# Altium schematic symbol library Interface_Expansion.SchLib: 68 symbols
Pins are listed as number, name and electrical type; pins without a type are passive.

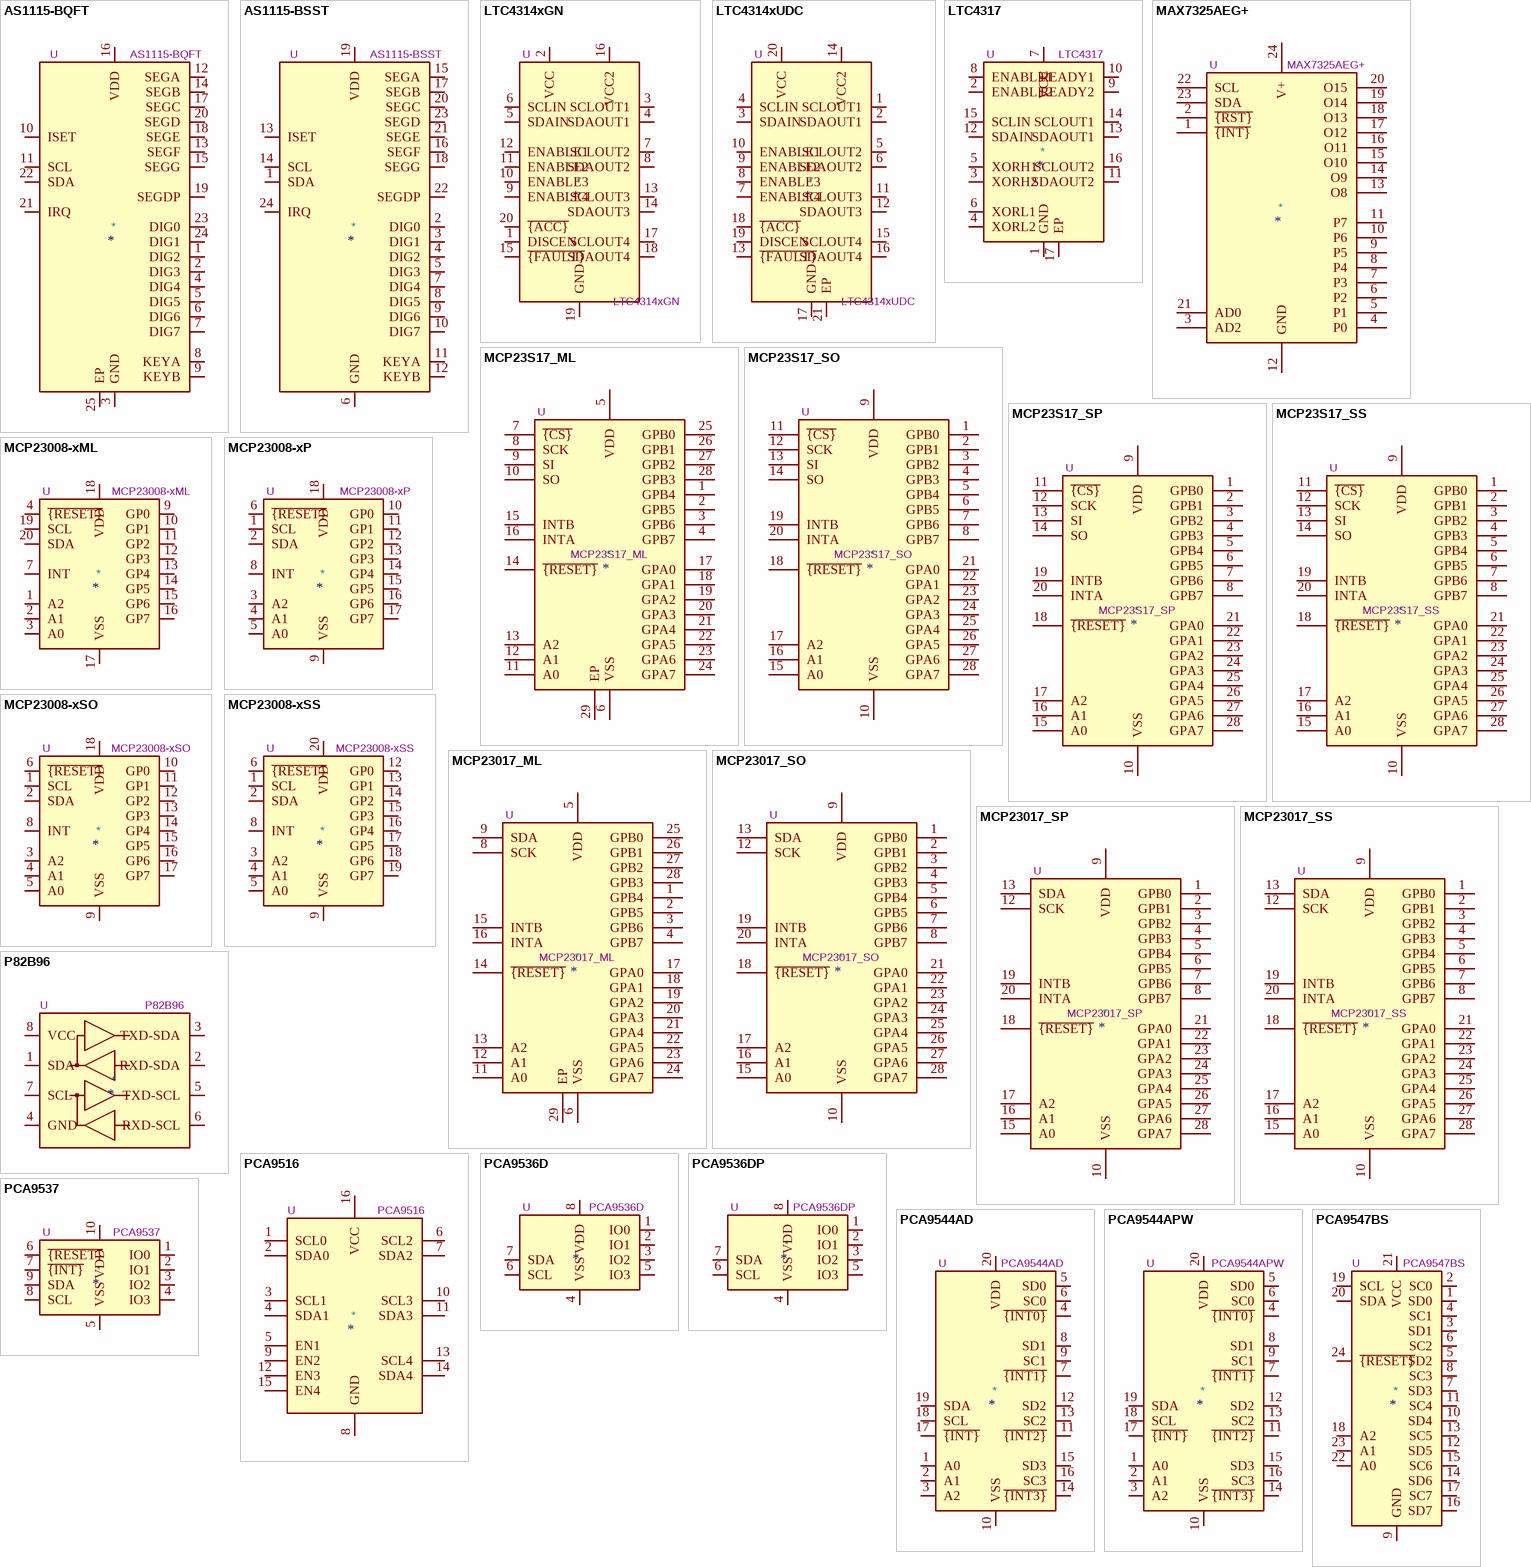
[diagram p0: symbols AS1115-BQFT to PCA9547BS]

## AS1115-BQFT
designator *  value AS1115-BQFT  Reference: U
ki_keywords: led driver i2c; ki_description: 64 LEDs, I2C Interfaced LED Driver with Keyscan, TQFN-24; ki_fp_filters: TQFN*1EP*4x4mm*P0.5mm*PullBack*; Footprint: Package_DFN_QFN:TQFN-24-1EP_4x4mm_P0.5mm_EP2.8x2.8mm_PullBack_ThermalVias; Datasheet: https://ams.com/documents/20143/36005/AS1115_DS000206_1-00.pdf/3d3e6d35-b184-1329-adf9-2d769eb2404f
pins: 1 DIG2, 2 DIG3, 3 GND, 4 DIG4, 5 DIG5, 6 DIG6, 7 DIG7, 8 KEYA, 9 KEYB, 10 ISET, 11 SCL, 12 SEGA, 13 SEGF, 14 SEGB, 15 SEGG, 16 VDD, 17 SEGC, 18 SEGE, 19 SEGDP, 20 SEGD, 21 IRQ, 22 SDA, 23 DIG0, 24 DIG1, 25 EP

## AS1115-BSST
designator *  value AS1115-BSST  Reference: U
ki_keywords: led driver i2c; ki_description: 64 LEDs, I2C Interfaced LED Driver with Keyscan, QSOP-24; ki_fp_filters: QSOP*3.9x8.7m*P0.635mm*; Footprint: Package_SO:QSOP-24_3.9x8.7mm_P0.635mm; Datasheet: https://ams.com/documents/20143/36005/AS1115_DS000206_1-00.pdf/3d3e6d35-b184-1329-adf9-2d769eb2404f
pins: 1 SDA, 2 DIG0, 3 DIG1, 4 DIG2, 5 DIG3, 6 GND, 7 DIG4, 8 DIG5, 9 DIG6, 10 DIG7, 11 KEYA, 12 KEYB, 13 ISET, 14 SCL, 15 SEGA, 16 SEGF, 17 SEGB, 18 SEGG, 19 VDD, 20 SEGC, 21 SEGE, 22 SEGDP, 23 SEGD, 24 IRQ

## LTC4314xGN
designator *  value LTC4314xGN  Reference: U
ki_keywords: I2C Multiplexer Buffer Level Shifter; ki_description: Pin-Selectable, 4-Channel, 2-Wire Multiplexer with Bus Buffers, SSOP-20; ki_fp_filters: SSOP*3.9x8.7mm*P0.635mm*; Footprint: Package_SO:SSOP-20_3.9x8.7mm_P0.635mm; Datasheet: https://www.analog.com/media/en/technical-documentation/data-sheets/4314f.pdf
pins: 1 DISCEN, 2 VCC, 3 SCLOUT1, 4 SDAOUT1, 5 SDAIN, 6 SCLIN, 7 SCLOUT2, 8 SDAOUT2, 9 ENABLE4, 10 ENABLE3, 11 ENABLE2, 12 ENABLE1, 13 SCLOUT3, 14 SDAOUT3, 15 ~{{FAULT}}, 16 VCC2, 17 SCLOUT4, 18 SDAOUT4, 19 GND, 20 ~{{ACC}}

## LTC4314xUDC
designator *  value LTC4314xUDC  Reference: U
ki_keywords: I2C Multiplexer Buffer Level Shifter; ki_description: Pin-Selectable, 4-Channel, 2-Wire Multiplexer with Bus Buffers, QFN-20; ki_fp_filters: QFN*1EP*3x4mm*P0.5mm*; Footprint: Package_DFN_QFN:QFN-20-1EP_3x4mm_P0.5mm_EP1.65x2.65mm; Datasheet: https://www.analog.com/media/en/technical-documentation/data-sheets/4314f.pdf
pins: 1 SCLOUT1, 2 SDAOUT1, 3 SDAIN, 4 SCLIN, 5 SCLOUT2, 6 SDAOUT2, 7 ENABLE4, 8 ENABLE3, 9 ENABLE2, 10 ENABLE1, 11 SCLOUT3, 12 SDAOUT3, 13 ~{{FAULT}}, 14 VCC2, 15 SCLOUT4, 16 SDAOUT4, 17 GND, 18 ~{{ACC}}, 19 DISCEN, 20 VCC, 21 EP

## LTC4317
designator *  value LTC4317  Reference: U
ki_keywords: I2C Translator 4kV-ESD Level-Shifter Hot-Swap; ki_description: Dual I2C/SMBus Address-Translator, DFN-16; ki_fp_filters: DFN*1EP*3x5mm*P0.5mm*; Footprint: Package_DFN_QFN:DFN-16-1EP_3x5mm_P0.5mm_EP1.66x4.4mm; Datasheet: https://www.analog.com/media/en/technical-documentation/data-sheets/4317fa.pdf
pins: 1 GND, 2 ENABLE2, 3 XORH2, 4 XORL2, 5 XORH1, 6 XORL1, 7 VCC, 8 ENABLE1, 9 READY2, 10 READY1, 11 SDAOUT2, 12 SDAIN, 13 SDAOUT1, 14 SCLOUT1, 15 SCLIN, 16 SCLOUT2, 17 EP

## MAX7325AEG+
designator *  value MAX7325AEG+  Reference: U
ki_keywords: Expander I2C Parallel Port GPIO Maxim; ki_description: I2C Port Expander with 8 Push-Pull and 8 Open-Drain I/Os, QSOP-24; ki_fp_filters: QSOP*3.9x8.7*P0.635mm*; Footprint: Package_SO:QSOP-24_3.9x8.7mm_P0.635mm; Datasheet: https://datasheets.maximintegrated.com/en/ds/MAX7325.pdf
pins: 1 ~{{INT}}, 2 ~{{RST}}, 3 AD2, 4 P0, 5 P1, 6 P2, 7 P3, 8 P4, 9 P5, 10 P6, 11 P7, 12 GND, 13 O8, 14 O9, 15 O10, 16 O11, 17 O12, 18 O13, 19 O14, 20 O15, 21 AD0, 22 SCL, 23 SDA, 24 V+

## MCP23S17_ML
designator *  value MCP23S17_ML  Reference: U
ki_keywords: SPI parallel port expander; ki_description: 16-bit I/O expander, SPI, interrupts, w pull-ups, QFN-28; ki_fp_filters: QFN*6x6mm*P0.65mm*; Footprint: Package_DFN_QFN:QFN-28-1EP_6x6mm_P0.65mm_EP4.25x4.25mm; Datasheet: http://ww1.microchip.com/downloads/en/DeviceDoc/20001952C.pdf
pins: 1 GPB4, 2 GPB5, 3 GPB6, 4 GPB7, 5 VDD, 6 VSS, 7 ~{{CS}}, 8 SCK, 9 SI, 10 SO, 11 A0, 12 A1, 13 A2, 14 ~{{RESET}}, 15 INTB, 16 INTA, 17 GPA0, 18 GPA1, 19 GPA2, 20 GPA3, 21 GPA4, 22 GPA5, 23 GPA6, 24 GPA7, 25 GPB0, 26 GPB1, 27 GPB2, 28 GPB3, 29 EP

## MCP23S17_SO
designator *  value MCP23S17_SO  Reference: U
ki_keywords: SPI parallel port expander; ki_description: 16-bit I/O expander, SPI, interrupts, w pull-ups, SOIC-28; ki_fp_filters: SOIC*7.5x17.9mm*P1.27mm*; Footprint: Package_SO:SOIC-28W_7.5x17.9mm_P1.27mm; Datasheet: http://ww1.microchip.com/downloads/en/DeviceDoc/20001952C.pdf
pins: 1 GPB0, 2 GPB1, 3 GPB2, 4 GPB3, 5 GPB4, 6 GPB5, 7 GPB6, 8 GPB7, 9 VDD, 10 VSS, 11 ~{{CS}}, 12 SCK, 13 SI, 14 SO, 15 A0, 16 A1, 17 A2, 18 ~{{RESET}}, 19 INTB, 20 INTA, 21 GPA0, 22 GPA1, 23 GPA2, 24 GPA3, 25 GPA4, 26 GPA5, 27 GPA6, 28 GPA7

## MCP23S17_SP
designator *  value MCP23S17_SP  Reference: U
ki_keywords: microchip i2c parallel port expander; ki_description: 16-bit I/O expander, SPI, interrupts, w pull-ups, SPDIP-28; ki_fp_filters: DIP*W7.62mm*; Footprint: Package_DIP:DIP-28_W7.62mm; Datasheet: http://ww1.microchip.com/downloads/en/DeviceDoc/20001952C.pdf
pins: 1 GPB0, 2 GPB1, 3 GPB2, 4 GPB3, 5 GPB4, 6 GPB5, 7 GPB6, 8 GPB7, 9 VDD, 10 VSS, 11 ~{{CS}}, 12 SCK, 13 SI, 14 SO, 15 A0, 16 A1, 17 A2, 18 ~{{RESET}}, 19 INTB, 20 INTA, 21 GPA0, 22 GPA1, 23 GPA2, 24 GPA3, 25 GPA4, 26 GPA5, 27 GPA6, 28 GPA7

## MCP23S17_SS
designator *  value MCP23S17_SS  Reference: U
ki_keywords: SPI parallel port expander; ki_description: 16-bit I/O expander, I2C, interrupts, w pull-ups, SSOP-28; ki_fp_filters: SSOP*5.3x10.2mm*P0.65mm*; Footprint: Package_SO:SSOP-28_5.3x10.2mm_P0.65mm; Datasheet: http://ww1.microchip.com/downloads/en/DeviceDoc/20001952C.pdf
pins: 1 GPB0, 2 GPB1, 3 GPB2, 4 GPB3, 5 GPB4, 6 GPB5, 7 GPB6, 8 GPB7, 9 VDD, 10 VSS, 11 ~{{CS}}, 12 SCK, 13 SI, 14 SO, 15 A0, 16 A1, 17 A2, 18 ~{{RESET}}, 19 INTB, 20 INTA, 21 GPA0, 22 GPA1, 23 GPA2, 24 GPA3, 25 GPA4, 26 GPA5, 27 GPA6, 28 GPA7

## MCP23008-xML
designator *  value MCP23008-xML  Reference: U
ki_keywords: I2C parallel port expander; ki_description: 8-bit I/O expander, I2C, interrupts, QFN-20; ki_fp_filters: QFN*4x4mm*P0.5mm*; Footprint: Package_DFN_QFN:QFN-20-1EP_4x4mm_P0.5mm_EP2.7x2.7mm; Datasheet: http://ww1.microchip.com/downloads/en/DeviceDoc/MCP23008-MCP23S08-Data-Sheet-20001919F.pdf
pins: 1 A2, 2 A1, 3 A0, 4 ~{{RESET}}, 5 NC hidden, 6 NC hidden, 7 INT, 8 NC hidden, 9 GP0, 10 GP1, 11 GP2, 12 GP3, 13 GP4, 14 GP5, 15 GP6, 16 GP7, 17 VSS, 18 VDD, 19 SCL, 20 SDA

## MCP23008-xP
designator *  value MCP23008-xP  Reference: U
ki_keywords: I2C parallel port expander; ki_description: 8-bit I/O expander, I2C, interrupts, PDIP-18; ki_fp_filters: DIP*W7.62mm*; Footprint: Package_DIP:DIP-18_W7.62mm; Datasheet: http://ww1.microchip.com/downloads/en/DeviceDoc/MCP23008-MCP23S08-Data-Sheet-20001919F.pdf
pins: 1 SCL, 2 SDA, 3 A2, 4 A1, 5 A0, 6 ~{{RESET}}, 7 NC hidden, 8 INT, 9 VSS, 10 GP0, 11 GP1, 12 GP2, 13 GP3, 14 GP4, 15 GP5, 16 GP6, 17 GP7, 18 VDD

## MCP23008-xSO
designator *  value MCP23008-xSO  Reference: U
ki_keywords: I2C parallel port expander; ki_description: 8-bit I/O expander, I2C, interrupts, SOIC-18; ki_fp_filters: SOIC*7.5x11.6mm*P1.27mm*; Footprint: Package_SO:SOIC-18W_7.5x11.6mm_P1.27mm; Datasheet: http://ww1.microchip.com/downloads/en/DeviceDoc/MCP23008-MCP23S08-Data-Sheet-20001919F.pdf
pins: 1 SCL, 2 SDA, 3 A2, 4 A1, 5 A0, 6 ~{{RESET}}, 7 NC hidden, 8 INT, 9 VSS, 10 GP0, 11 GP1, 12 GP2, 13 GP3, 14 GP4, 15 GP5, 16 GP6, 17 GP7, 18 VDD

## MCP23008-xSS
designator *  value MCP23008-xSS  Reference: U
ki_keywords: I2C parallel port expander; ki_description: 8-bit I/O expander, I2C, interrupts, SSOP-20; ki_fp_filters: SSOP*5.3x7.2mm*P0.65mm*; Footprint: Package_SO:SSOP-20_5.3x7.2mm_P0.65mm; Datasheet: http://ww1.microchip.com/downloads/en/DeviceDoc/MCP23008-MCP23S08-Data-Sheet-20001919F.pdf
pins: 1 SCL, 2 SDA, 3 A2, 4 A1, 5 A0, 6 ~{{RESET}}, 7 NC hidden, 8 INT, 9 VSS, 10 NC hidden, 11 NC hidden, 12 GP0, 13 GP1, 14 GP2, 15 GP3, 16 GP4, 17 GP5, 18 GP6, 19 GP7, 20 VDD

## MCP23017_ML
designator *  value MCP23017_ML  Reference: U
ki_keywords: I2C parallel port expander; ki_description: 16-bit I/O expander, I2C, interrupts, w pull-ups, QFN-28; ki_fp_filters: QFN*6x6mm*P0.65mm*; Footprint: Package_DFN_QFN:QFN-28-1EP_6x6mm_P0.65mm_EP4.25x4.25mm; Datasheet: http://ww1.microchip.com/downloads/en/DeviceDoc/20001952C.pdf
pins: 1 GPB4, 2 GPB5, 3 GPB6, 4 GPB7, 5 VDD, 6 VSS, 7 NC hidden, 8 SCK, 9 SDA, 10 NC hidden, 11 A0, 12 A1, 13 A2, 14 ~{{RESET}}, 15 INTB, 16 INTA, 17 GPA0, 18 GPA1, 19 GPA2, 20 GPA3, 21 GPA4, 22 GPA5, 23 GPA6, 24 GPA7, 25 GPB0, 26 GPB1, 27 GPB2, 28 GPB3, 29 EP

## MCP23017_SO
designator *  value MCP23017_SO  Reference: U
ki_keywords: I2C parallel port expander; ki_description: 16-bit I/O expander, I2C, interrupts, w pull-ups, SOIC-28; ki_fp_filters: SOIC*7.5x17.9mm*P1.27mm*; Footprint: Package_SO:SOIC-28W_7.5x17.9mm_P1.27mm; Datasheet: http://ww1.microchip.com/downloads/en/DeviceDoc/20001952C.pdf
pins: 1 GPB0, 2 GPB1, 3 GPB2, 4 GPB3, 5 GPB4, 6 GPB5, 7 GPB6, 8 GPB7, 9 VDD, 10 VSS, 11 NC hidden, 12 SCK, 13 SDA, 14 NC hidden, 15 A0, 16 A1, 17 A2, 18 ~{{RESET}}, 19 INTB, 20 INTA, 21 GPA0, 22 GPA1, 23 GPA2, 24 GPA3, 25 GPA4, 26 GPA5, 27 GPA6, 28 GPA7

## MCP23017_SP
designator *  value MCP23017_SP  Reference: U
ki_keywords: I2C parallel port expander; ki_description: 16-bit I/O expander, I2C, interrupts, w pull-ups, SPDIP-28; ki_fp_filters: DIP*W7.62mm*; Footprint: Package_DIP:DIP-28_W7.62mm; Datasheet: http://ww1.microchip.com/downloads/en/DeviceDoc/20001952C.pdf
pins: 1 GPB0, 2 GPB1, 3 GPB2, 4 GPB3, 5 GPB4, 6 GPB5, 7 GPB6, 8 GPB7, 9 VDD, 10 VSS, 11 NC hidden, 12 SCK, 13 SDA, 14 NC hidden, 15 A0, 16 A1, 17 A2, 18 ~{{RESET}}, 19 INTB, 20 INTA, 21 GPA0, 22 GPA1, 23 GPA2, 24 GPA3, 25 GPA4, 26 GPA5, 27 GPA6, 28 GPA7

## MCP23017_SS
designator *  value MCP23017_SS  Reference: U
ki_keywords: I2C parallel port expander; ki_description: 16-bit I/O expander, I2C, interrupts, w pull-ups, SSOP-28; ki_fp_filters: SSOP*5.3x10.2mm*P0.65mm*; Footprint: Package_SO:SSOP-28_5.3x10.2mm_P0.65mm; Datasheet: http://ww1.microchip.com/downloads/en/DeviceDoc/20001952C.pdf
pins: 1 GPB0, 2 GPB1, 3 GPB2, 4 GPB3, 5 GPB4, 6 GPB5, 7 GPB6, 8 GPB7, 9 VDD, 10 VSS, 11 NC hidden, 12 SCK, 13 SDA, 14 NC hidden, 15 A0, 16 A1, 17 A2, 18 ~{{RESET}}, 19 INTB, 20 INTA, 21 GPA0, 22 GPA1, 23 GPA2, 24 GPA3, 25 GPA4, 26 GPA5, 27 GPA6, 28 GPA7

## P82B96
designator *  value P82B96  Reference: U
ki_keywords: I2C Bus Buffer; ki_description: Dual I2C Bus Buffer, DIP8/SO8/TSSOP8; ki_fp_filters: DIP* PDIP* SOIC* SO* TSSOP*; Datasheet: http://www.nxp.com/docs/en/data-sheet/P82B96.pdf
pins: 1 SDA, 2 RXD-SDA, 3 TXD-SDA, 4 GND, 5 TXD-SCL, 6 RXD-SCL, 7 SCL, 8 VCC

## PCA9516
designator *  value PCA9516  Reference: U
ki_keywords: I2C Hub; ki_description: 5 channels I2C Hub, SO/TSSOP16; ki_fp_filters: SO* SOIC* TSSOP*; Datasheet: http://www.nxp.com/docs/en/data-sheet/PCA9518.pdf
pins: 1 SCL0, 2 SDA0, 3 SCL1, 4 SDA1, 5 EN1, 6 SCL2, 7 SDA2, 8 GND, 9 EN2, 10 SCL3, 11 SDA3, 12 EN3, 13 SCL4, 14 SDA4, 15 EN4, 16 VCC

## PCA9536D
designator *  value PCA9536D  Reference: U
ki_keywords: i2c io port; ki_description: 4-bit I2C-bus and SMBus IO port, SOIC-8; ki_fp_filters: SOIC*3.9x4.9mm*P1.27mm*; Footprint: Package_SO:SOIC-8_3.9x4.9mm_P1.27mm; Datasheet: http://www.nxp.com/docs/en/data-sheet/PCA9536.pdf
pins: 1 IO0, 2 IO1, 3 IO2, 4 VSS, 5 IO3, 6 SCL, 7 SDA, 8 VDD

## PCA9536DP
designator *  value PCA9536DP  Reference: U
ki_keywords: i2c io port; ki_description: 4-bit I2C-bus and SMBus IO port, TSSOP-8; ki_fp_filters: TSSOP*3x3mm*P0.65mm*; Footprint: Package_SO:TSSOP-8_3x3mm_P0.65mm; Datasheet: http://www.nxp.com/docs/en/data-sheet/PCA9536.pdf
pins: 1 IO0, 2 IO1, 3 IO2, 4 VSS, 5 IO3, 6 SCL, 7 SDA, 8 VDD

## PCA9537
designator *  value PCA9537  Reference: U
ki_keywords: i2c io port; ki_description: 4-bit I2C-bus and SMBus IO port with interrupt and reset, TSSOP-10; ki_fp_filters: TSSOP*3x3mm*P0.5mm*; Footprint: Package_SO:TSSOP-10_3x3mm_P0.5mm; Datasheet: https://www.nxp.com/docs/en/data-sheet/PCA9537.pdf
pins: 1 IO0, 2 IO1, 3 IO2, 4 IO3, 5 VSS, 6 ~{{RESET}}, 7 ~{{INT}}, 8 SCL, 9 SDA, 10 VDD

## PCA9544AD
designator *  value PCA9544AD  Reference: U
ki_keywords: i2c multiplexer; ki_description: 4-channel I2C-bus multiplexer with interrupt logic, SOIC-20; ki_fp_filters: SOIC*7.5x12.8mm*P1.27mm*; Footprint: Package_SO:SOIC-20W_7.5x12.8mm_P1.27mm; Datasheet: http://www.nxp.com/docs/en/data-sheet/PCA9544A.pdf
pins: 1 A0, 2 A1, 3 A2, 4 ~{{INT0}}, 5 SD0, 6 SC0, 7 ~{{INT1}}, 8 SD1, 9 SC1, 10 VSS, 11 ~{{INT2}}, 12 SD2, 13 SC2, 14 ~{{INT3}}, 15 SD3, 16 SC3, 17 ~{{INT}}, 18 SCL, 19 SDA, 20 VDD

## PCA9544APW
designator *  value PCA9544APW  Reference: U
ki_keywords: i2c multiplexer; ki_description: 4-channel I2C-bus multiplexer with interrupt logic, TSSOP-20; ki_fp_filters: TSSOP*4.4x6.5mm*P0.65mm*; Footprint: Package_SO:TSSOP-20_4.4x6.5mm_P0.65mm; Datasheet: http://www.nxp.com/docs/en/data-sheet/PCA9544A.pdf
pins: 1 A0, 2 A1, 3 A2, 4 ~{{INT0}}, 5 SD0, 6 SC0, 7 ~{{INT1}}, 8 SD1, 9 SC1, 10 VSS, 11 ~{{INT2}}, 12 SD2, 13 SC2, 14 ~{{INT3}}, 15 SD3, 16 SC3, 17 ~{{INT}}, 18 SCL, 19 SDA, 20 VDD

## PCA9547BS
designator *  value PCA9547BS  Reference: U
ki_keywords: Low voltage 8-channel I2C switch with reset; ki_description: Low voltage 8-channel I2C switch with reset, HVQFN-24; ki_fp_filters: HVQFN*4x4mm*P0.5mm*; Footprint: Package_DFN_QFN:HVQFN-24-1EP_4x4mm_P0.5mm_EP2.1x2.1mm; Datasheet: https://www.nxp.com/docs/en/data-sheet/PCA9547.pdf
pins: 1 SD0, 2 SC0, 3 SD1, 4 SC1, 5 SD2, 6 SC2, 7 SD3, 8 SC3, 9 GND, 10 SD4, 11 SC4, 12 SD5, 13 SC5, 14 SD6, 15 SC6, 16 SD7, 17 SC7, 18 A2, 19 SCL, 20 SDA, 21 VCC, 22 A0, 23 A1, 24 ~{{RESET}}, 25 GND hidden

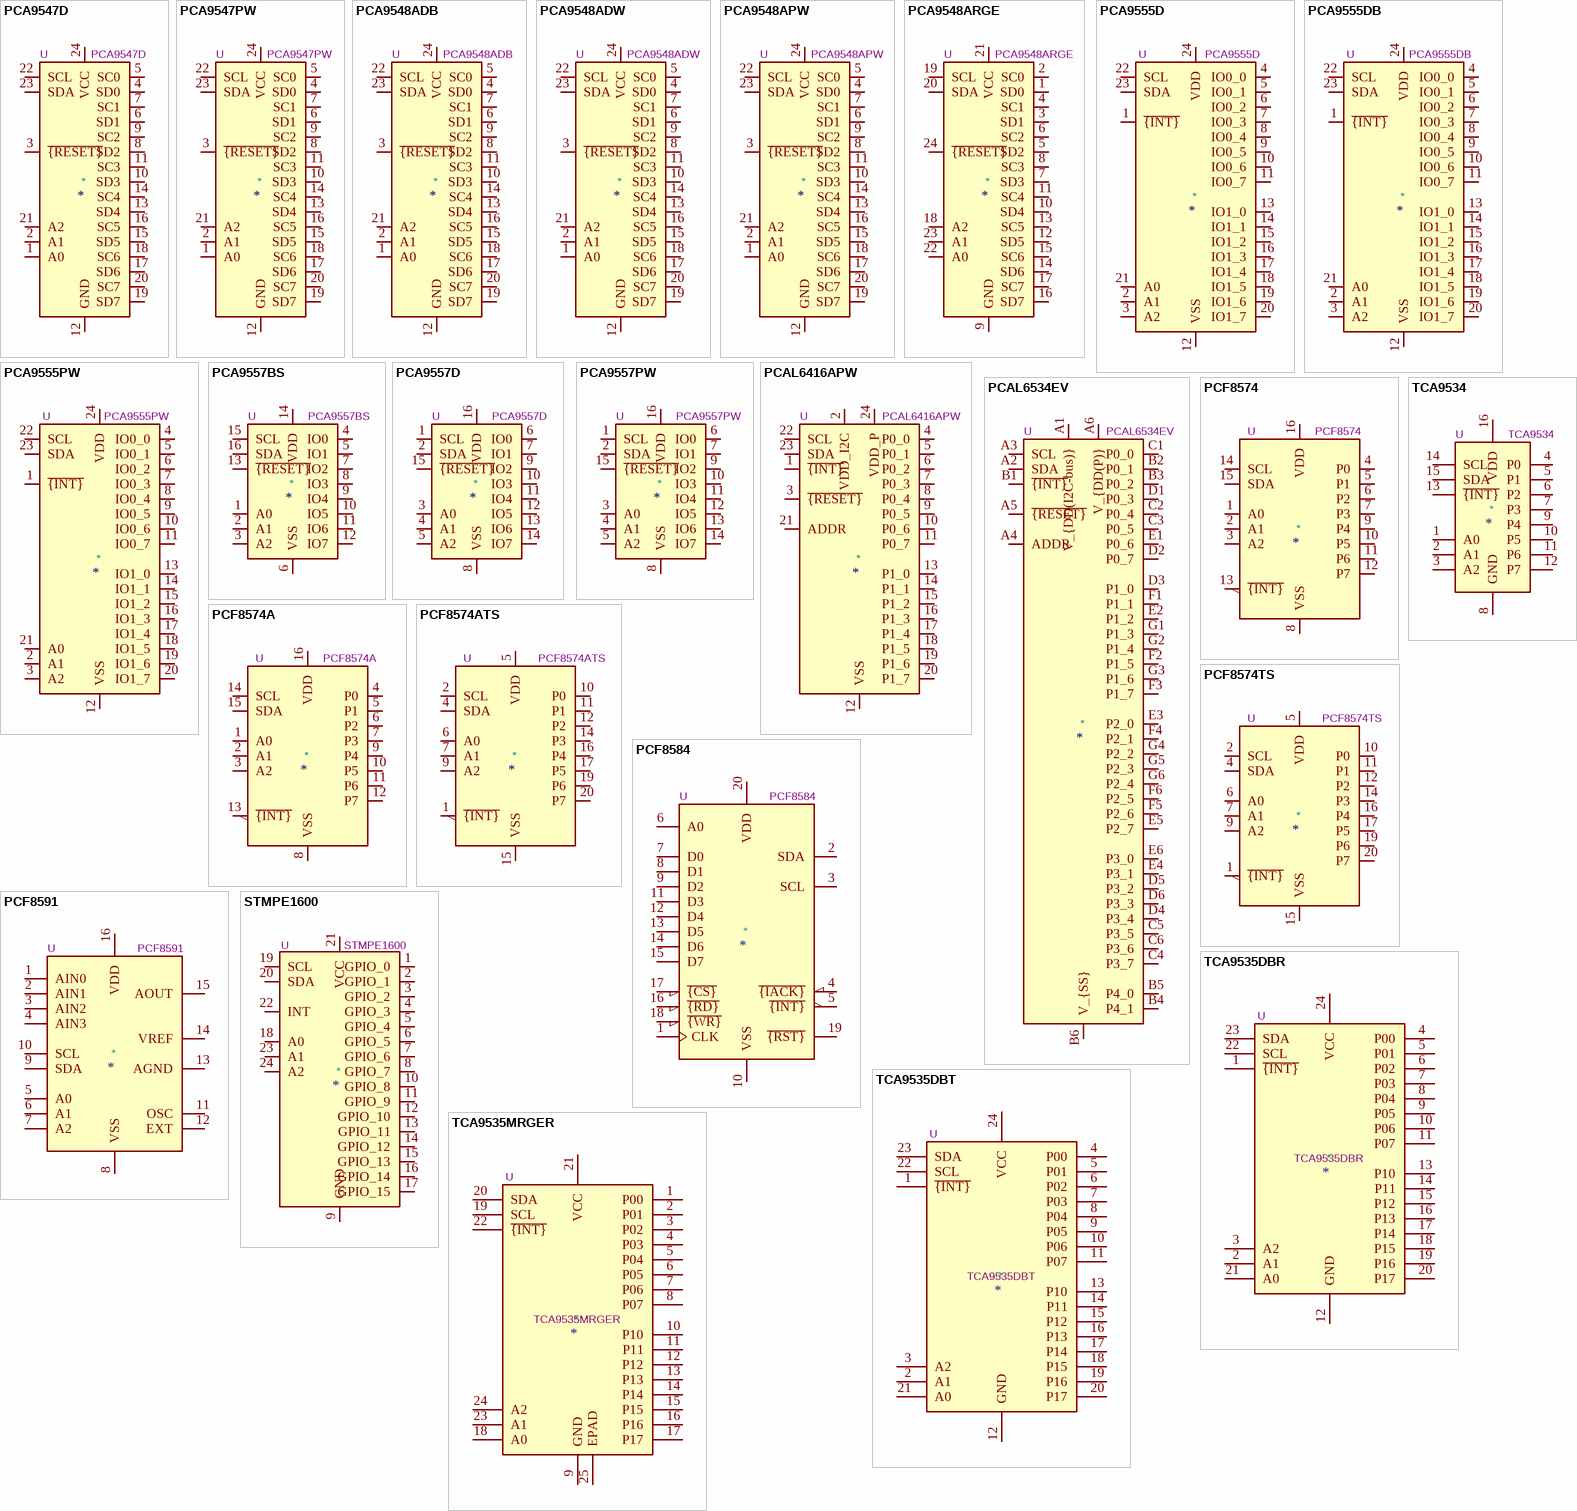
[diagram p1: symbols PCA9547D to TCA9535MRGER]

## PCA9547D
designator *  value PCA9547D  Reference: U
ki_keywords: Low voltage 8-channel I2C switch with reset; ki_description: Low voltage 8-channel I2C switch with reset, SO-24; ki_fp_filters: SOIC*7.5x15.4mm*P1.27mm*; Footprint: Package_SO:SOIC-24W_7.5x15.4mm_P1.27mm; Datasheet: https://www.nxp.com/docs/en/data-sheet/PCA9547.pdf
pins: 1 A0, 2 A1, 3 ~{{RESET}}, 4 SD0, 5 SC0, 6 SD1, 7 SC1, 8 SD2, 9 SC2, 10 SD3, 11 SC3, 12 GND, 13 SD4, 14 SC4, 15 SD5, 16 SC5, 17 SD6, 18 SC6, 19 SD7, 20 SC7, 21 A2, 22 SCL, 23 SDA, 24 VCC

## PCA9547PW
designator *  value PCA9547PW  Reference: U
ki_keywords: Low voltage 8-channel I2C switch with reset; ki_description: Low voltage 8-channel I2C switch with reset, TSSOP-24; ki_fp_filters: TSSOP*4.4x7.8mm*P0.65mm*; Footprint: Package_SO:TSSOP-24_4.4x7.8mm_P0.65mm; Datasheet: https://www.nxp.com/docs/en/data-sheet/PCA9547.pdf
pins: 1 A0, 2 A1, 3 ~{{RESET}}, 4 SD0, 5 SC0, 6 SD1, 7 SC1, 8 SD2, 9 SC2, 10 SD3, 11 SC3, 12 GND, 13 SD4, 14 SC4, 15 SD5, 16 SC5, 17 SD6, 18 SC6, 19 SD7, 20 SC7, 21 A2, 22 SCL, 23 SDA, 24 VCC

## PCA9548ADB
designator *  value PCA9548ADB  Reference: U
ki_keywords: Low voltage 8-channel I2C switch with reset; ki_description: Low voltage 8-channel I2C switch with reset, SSOP-24; ki_fp_filters: SSOP*5.3x8.2mm*P0.65mm*; Footprint: Package_SO:SSOP-24_5.3x8.2mm_P0.65mm; Datasheet: http://www.ti.com/lit/ds/symlink/pca9548a.pdf
pins: 1 A0, 2 A1, 3 ~{{RESET}}, 4 SD0, 5 SC0, 6 SD1, 7 SC1, 8 SD2, 9 SC2, 10 SD3, 11 SC3, 12 GND, 13 SD4, 14 SC4, 15 SD5, 16 SC5, 17 SD6, 18 SC6, 19 SD7, 20 SC7, 21 A2, 22 SCL, 23 SDA, 24 VCC

## PCA9548ADW
designator *  value PCA9548ADW  Reference: U
ki_keywords: Low voltage 8-channel I2C switch with reset; ki_description: Low voltage 8-channel I2C switch with reset, SOIC-24; ki_fp_filters: SOIC*7.5x15.4mm*P1.27mm*; Footprint: Package_SO:SOIC-24W_7.5x15.4mm_P1.27mm; Datasheet: http://www.ti.com/lit/ds/symlink/pca9548a.pdf
pins: 1 A0, 2 A1, 3 ~{{RESET}}, 4 SD0, 5 SC0, 6 SD1, 7 SC1, 8 SD2, 9 SC2, 10 SD3, 11 SC3, 12 GND, 13 SD4, 14 SC4, 15 SD5, 16 SC5, 17 SD6, 18 SC6, 19 SD7, 20 SC7, 21 A2, 22 SCL, 23 SDA, 24 VCC

## PCA9548APW
designator *  value PCA9548APW  Reference: U
ki_keywords: Low voltage 8-channel I2C switch with reset; ki_description: Low voltage 8-channel I2C switch with reset, TSSOP-24; ki_fp_filters: TSSOP*4.4x7.8mm*P0.65mm*; Footprint: Package_SO:TSSOP-24_4.4x7.8mm_P0.65mm; Datasheet: http://www.ti.com/lit/ds/symlink/pca9548a.pdf
pins: 1 A0, 2 A1, 3 ~{{RESET}}, 4 SD0, 5 SC0, 6 SD1, 7 SC1, 8 SD2, 9 SC2, 10 SD3, 11 SC3, 12 GND, 13 SD4, 14 SC4, 15 SD5, 16 SC5, 17 SD6, 18 SC6, 19 SD7, 20 SC7, 21 A2, 22 SCL, 23 SDA, 24 VCC

## PCA9548ARGE
designator *  value PCA9548ARGE  Reference: U
ki_keywords: Low voltage 8-channel I2C switch with reset; ki_description: Low voltage 8-channel I2C switch with reset, VQFN-24; ki_fp_filters: Texas*RGE0024C*; Footprint: Package_DFN_QFN:Texas_RGE0024C_EP2.1x2.1mm; Datasheet: http://www.ti.com/lit/ds/symlink/pca9548a.pdf
pins: 1 SD0, 2 SC0, 3 SD1, 4 SC1, 5 SD2, 6 SC2, 7 SD3, 8 SC3, 9 GND, 10 SD4, 11 SC4, 12 SD5, 13 SC5, 14 SD6, 15 SC6, 16 SD7, 17 SC7, 18 A2, 19 SCL, 20 SDA, 21 VCC, 22 A0, 23 A1, 24 ~{{RESET}}, 25 1EP hidden

## PCA9555D
designator *  value PCA9555D  Reference: U
ki_keywords: I2C TWI IO expander; ki_description: IO expander 16 GPIO, I2C 400kHz, Interrupt, 2.3 - 5.5V, SOIC-24; ki_fp_filters: SOIC*7.5x15.4mm*P1.27mm*; Footprint: Package_SO:SOIC-24W_7.5x15.4mm_P1.27mm; Datasheet: https://www.nxp.com/docs/en/data-sheet/PCA9555.pdf
pins: 1 ~{{INT}}, 2 A1, 3 A2, 4 IO0_0, 5 IO0_1, 6 IO0_2, 7 IO0_3, 8 IO0_4, 9 IO0_5, 10 IO0_6, 11 IO0_7, 12 VSS, 13 IO1_0, 14 IO1_1, 15 IO1_2, 16 IO1_3, 17 IO1_4, 18 IO1_5, 19 IO1_6, 20 IO1_7, 21 A0, 22 SCL, 23 SDA, 24 VDD

## PCA9555DB
designator *  value PCA9555DB  Reference: U
ki_keywords: I2C TWI IO expander; ki_description: IO expander 16 GPIO, I2C 400kHz, Interrupt, 2.3 - 5.5V, SSOP-24; ki_fp_filters: SSOP*5.3x8.2mm*P0.65mm*; Footprint: Package_SO:SSOP-24_5.3x8.2mm_P0.65mm; Datasheet: https://www.nxp.com/docs/en/data-sheet/PCA9555.pdf
pins: 1 ~{{INT}}, 2 A1, 3 A2, 4 IO0_0, 5 IO0_1, 6 IO0_2, 7 IO0_3, 8 IO0_4, 9 IO0_5, 10 IO0_6, 11 IO0_7, 12 VSS, 13 IO1_0, 14 IO1_1, 15 IO1_2, 16 IO1_3, 17 IO1_4, 18 IO1_5, 19 IO1_6, 20 IO1_7, 21 A0, 22 SCL, 23 SDA, 24 VDD

## PCA9555PW
designator *  value PCA9555PW  Reference: U
ki_keywords: I2C TWI IO expander; ki_description: IO expander 16 GPIO, I2C 400kHz, Interrupt, 2.3 - 5.5V, TSSOP-24; ki_fp_filters: TSSOP*4.4x7.8mm*P0.65mm*; Footprint: Package_SO:TSSOP-24_4.4x7.8mm_P0.65mm; Datasheet: https://www.nxp.com/docs/en/data-sheet/PCA9555.pdf
pins: 1 ~{{INT}}, 2 A1, 3 A2, 4 IO0_0, 5 IO0_1, 6 IO0_2, 7 IO0_3, 8 IO0_4, 9 IO0_5, 10 IO0_6, 11 IO0_7, 12 VSS, 13 IO1_0, 14 IO1_1, 15 IO1_2, 16 IO1_3, 17 IO1_4, 18 IO1_5, 19 IO1_6, 20 IO1_7, 21 A0, 22 SCL, 23 SDA, 24 VDD

## PCA9557BS
designator *  value PCA9557BS  Reference: U
ki_keywords: SMBUS I2C Expander; ki_description: 8-bit I2C-bus and SMBus I/O port with reset, HVQFN-16; ki_fp_filters: HVQFN*1EP*3x3mm*P0.5mm*; Footprint: Package_DFN_QFN:HVQFN-16-1EP_3x3mm_P0.5mm_EP1.5x1.5mm; Datasheet: https://www.nxp.com/docs/en/data-sheet/PCA9557.pdf
pins: 1 A0, 2 A1, 3 A2, 4 IO0, 5 IO1, 6 VSS, 7 IO2, 8 IO3, 9 IO4, 10 IO5, 11 IO6, 12 IO7, 13 ~{{RESET}}, 14 VDD, 15 SCL, 16 SDA

## PCA9557D
designator *  value PCA9557D  Reference: U
ki_keywords: SMBUS I2C Expander; ki_description: 8-bit I2C-bus and SMBus I/O port with reset, SO-16; ki_fp_filters: SO*3.9x9.9mm*P1.27mm*; Footprint: Package_SO:SO-16_3.9x9.9mm_P1.27mm; Datasheet: https://www.nxp.com/docs/en/data-sheet/PCA9557.pdf
pins: 1 SCL, 2 SDA, 3 A0, 4 A1, 5 A2, 6 IO0, 7 IO1, 8 VSS, 9 IO2, 10 IO3, 11 IO4, 12 IO5, 13 IO6, 14 IO7, 15 ~{{RESET}}, 16 VDD

## PCA9557PW
designator *  value PCA9557PW  Reference: U
ki_keywords: SMBUS I2C Expander; ki_description: 8-bit I2C-bus and SMBus I/O port with reset, TSSOP-16; ki_fp_filters: TSSOP*4.4x5mm*P0.65mm*; Footprint: Package_SO:TSSOP-16_4.4x5mm_P0.65mm; Datasheet: https://www.nxp.com/docs/en/data-sheet/PCA9557.pdf
pins: 1 SCL, 2 SDA, 3 A0, 4 A1, 5 A2, 6 IO0, 7 IO1, 8 VSS, 9 IO2, 10 IO3, 11 IO4, 12 IO5, 13 IO6, 14 IO7, 15 ~{{RESET}}, 16 VDD

## PCAL6416APW
designator *  value PCAL6416APW  Reference: U
ki_keywords: I2C TWI IO expander; ki_description: IO expander 16 GPIO, I2C 400kHz, Interrupt, 1.65 - 5.5V, TSSOP-24; ki_fp_filters: TSSOP*4.4x7.8mm*P0.65mm*; Footprint: Package_SO:TSSOP-24_4.4x7.8mm_P0.65mm; Datasheet: https://www.nxp.com/docs/en/data-sheet/PCAL6416A.pdf
pins: 1 ~{{INT}}, 2 VDD_I2C, 3 ~{{RESET}}, 4 P0_0, 5 P0_1, 6 P0_2, 7 P0_3, 8 P0_4, 9 P0_5, 10 P0_6, 11 P0_7, 12 VSS, 13 P1_0, 14 P1_1, 15 P1_2, 16 P1_3, 17 P1_4, 18 P1_5, 19 P1_6, 20 P1_7, 21 ADDR, 22 SCL, 23 SDA, 24 VDD_P

## PCAL6534EV
designator *  value PCAL6534EV  Reference: U
ki_keywords: I2C TWI IO expander; ki_description: Ultra low-voltage translating 34-bit Fm+ I2C-bus/SMBus I/O expander with Agile I/O features, interrupt output and reset; ki_fp_filters: *VFBGA*2.6x3mm*Layout6x7*P0.4mm*; Footprint: Package_BGA:NXP_VFBGA-42_2.6x3mm_Layout6x7_P0.4mm_Ball0.25mm_Pad0.24mm; Datasheet: https://www.nxp.com/docs/en/data-sheet/PCAL6534.pdf
pins: A1 V_{DD(I2C-bus)}, A2 SDA, A3 SCL, A4 ADDR, A5 ~{{RESET}}, A6 V_{DD(P)}, B1 ~{{INT}}, B2 P0_1, B3 P0_2, B4 P4_1, B5 P4_0, B6 V_{SS}, C1 P0_0, C2 P0_4, C3 P0_5, C4 P3_7, C5 P3_5, C6 P3_6, D1 P0_3, D2 P0_7, D3 P1_0, D4 P3_4, D5 P3_2, D6 P3_3, E1 P0_6, E2 P1_2, E3 P2_0, E4 P3_1, E5 P2_7, E6 P3_0, F1 P1_1, F2 P1_5, F3 P1_7, F4 P2_1, F5 P2_6, F6 P2_5, G1 P1_3, G2 P1_4, G3 P1_6, G4 P2_2, G5 P2_3, G6 P2_4

## PCF8574
designator *  value PCF8574  Reference: U
ki_keywords: I2C Expander; ki_description: 8 Bit Port/Expander to I2C Bus, DIP/SOIC-16; ki_fp_filters: DIP*W7.62mm* SOIC*7.5x10.3mm*P1.27mm*; Datasheet: http://www.nxp.com/docs/en/data-sheet/PCF8574_PCF8574A.pdf
pins: 1 A0, 2 A1, 3 A2, 4 P0, 5 P1, 6 P2, 7 P3, 8 VSS, 9 P4, 10 P5, 11 P6, 12 P7, 13 ~{{INT}}, 14 SCL, 15 SDA, 16 VDD

## PCF8574A
designator *  value PCF8574A  Reference: U
ki_keywords: I2C Expander; ki_description: 8 Bit Port/Expander to I2C Bus, DIP/SOIC-16; ki_fp_filters: DIP*W7.62mm* SOIC*7.5x10.3mm*P1.27mm*; Datasheet: http://www.nxp.com/docs/en/data-sheet/PCF8574_PCF8574A.pdf
pins: 1 A0, 2 A1, 3 A2, 4 P0, 5 P1, 6 P2, 7 P3, 8 VSS, 9 P4, 10 P5, 11 P6, 12 P7, 13 ~{{INT}}, 14 SCL, 15 SDA, 16 VDD

## PCF8574ATS
designator *  value PCF8574ATS  Reference: U
ki_keywords: I2C Expander; ki_description: 8 Bit Port/Expander to I2C Bus, SSOP-20; ki_fp_filters: SSOP*4.4x6.5mm*P0.65mm*; Footprint: Package_SO:SSOP-20_4.4x6.5mm_P0.65mm; Datasheet: http://www.nxp.com/docs/en/data-sheet/PCF8574_PCF8574A.pdf
pins: 1 ~{{INT}}, 2 SCL, 3 NC hidden, 4 SDA, 5 VDD, 6 A0, 7 A1, 8 NC hidden, 9 A2, 10 P0, 11 P1, 12 P2, 13 NC hidden, 14 P3, 15 VSS, 16 P4, 17 P5, 18 NC hidden, 19 P6, 20 P7

## PCF8574TS
designator *  value PCF8574TS  Reference: U
ki_keywords: I2C Expander; ki_description: 8 Bit Port/Expander to I2C Bus, SSOP-20; ki_fp_filters: SSOP*4.4x6.5mm*P0.65mm*; Footprint: Package_SO:SSOP-20_4.4x6.5mm_P0.65mm; Datasheet: http://www.nxp.com/docs/en/data-sheet/PCF8574_PCF8574A.pdf
pins: 1 ~{{INT}}, 2 SCL, 3 NC hidden, 4 SDA, 5 VDD, 6 A0, 7 A1, 8 NC hidden, 9 A2, 10 P0, 11 P1, 12 P2, 13 NC hidden, 14 P3, 15 VSS, 16 P4, 17 P5, 18 NC hidden, 19 P6, 20 P7

## PCF8584
designator *  value PCF8584  Reference: U
ki_keywords: I2C Bus; ki_description: I2C Bus Controller, DIP/SOIC-20; ki_fp_filters: DIP* PDIP* SO* SOIC*; Datasheet: http://www.nxp.com/docs/en/data-sheet/PCF8584.pdf
pins: 1 CLK, 2 SDA, 3 SCL, 4 ~{{IACK}}, 5 ~{{INT}}, 6 A0, 7 D0, 8 D1, 9 D2, 10 VSS, 11 D3, 12 D4, 13 D5, 14 D6, 15 D7, 16 ~{{RD}}, 17 ~{{CS}}, 18 ~{{WR}}, 19 ~{{RST}}, 20 VDD

## PCF8591
designator *  value PCF8591  Reference: U
ki_keywords: I2C ADC DAC; ki_description: 4ch ADC, 1 DAC, I2C Bus Interface, DIP/SOIC-16; ki_fp_filters: DIP* PDIP* SO* SOIC*; Datasheet: http://www.nxp.com/docs/en/data-sheet/PCF8591.pdf
pins: 1 AIN0, 2 AIN1, 3 AIN2, 4 AIN3, 5 A0, 6 A1, 7 A2, 8 VSS, 9 SDA, 10 SCL, 11 OSC, 12 EXT, 13 AGND, 14 VREF, 15 AOUT, 16 VDD

## STMPE1600
designator *  value STMPE1600  Reference: U
ki_keywords: IO expander 16 GPIO; ki_description: IO expander 16 GPIO, I2C 400kHz, Interrupt, 1.65 - 3.6V, QFN-24; ki_fp_filters: QFN*1EP*4x4mm*P0.5mm*; Footprint: Package_DFN_QFN:QFN-24-1EP_4x4mm_P0.5mm_EP2.6x2.6mm; Datasheet: http://www.st.com/resource/en/datasheet/stmpe1600.pdf
pins: 1 GPIO_0, 2 GPIO_1, 3 GPIO_2, 4 GPIO_3, 5 GPIO_4, 6 GPIO_5, 7 GPIO_6, 8 GPIO_7, 9 GND, 10 GPIO_8, 11 GPIO_9, 12 GPIO_10, 13 GPIO_11, 14 GPIO_12, 15 GPIO_13, 16 GPIO_14, 17 GPIO_15, 18 A0, 19 SCL, 20 SDA, 21 VCC, 22 INT, 23 A1, 24 A2

## TCA9534
designator *  value TCA9534  Reference: U
ki_keywords: SMBUS I2C Expander; ki_description: 8 Bit Port/Expander, I2C SMBUS, Interrupt output, TSSOP-16, SOIC-16; ki_fp_filters: TSSOP*4.4x5mm*P0.65mm* SOIC*7.5x10.3mm*P1.27mm*; Datasheet: http://www.ti.com/lit/ds/symlink/tca9534.pdf
pins: 1 A0, 2 A1, 3 A2, 4 P0, 5 P1, 6 P2, 7 P3, 8 GND, 9 P4, 10 P5, 11 P6, 12 P7, 13 ~{{INT}}, 14 SCL, 15 SDA, 16 VDD

## TCA9535DBR
designator *  value TCA9535DBR  Reference: U
ki_keywords: ti parallel port; ki_description: 16-bit I/O expander, I2C and SMBus interface, interrupts, w/o pull-ups, SSOP-24; ki_fp_filters: SSOP*5.3x8.2mm*P0.65mm*; Footprint: Package_SO:SSOP-24_5.3x8.2mm_P0.65mm; Datasheet: http://www.ti.com/lit/ds/symlink/tca9535.pdf
pins: 1 ~{{INT}}, 2 A1, 3 A2, 4 P00, 5 P01, 6 P02, 7 P03, 8 P04, 9 P05, 10 P06, 11 P07, 12 GND, 13 P10, 14 P11, 15 P12, 16 P13, 17 P14, 18 P15, 19 P16, 20 P17, 21 A0, 22 SCL, 23 SDA, 24 VCC

## TCA9535DBT
designator *  value TCA9535DBT  Reference: U
ki_keywords: ti parallel port; ki_description: 16-bit I/O expander, I2C and SMBus interface, interrupts, w/o pull-ups, SSOP-24; ki_fp_filters: SSOP*5.3x8.2mm*P0.65mm*; Footprint: Package_SO:SSOP-24_5.3x8.2mm_P0.65mm; Datasheet: http://www.ti.com/lit/ds/symlink/tca9535.pdf
pins: 1 ~{{INT}}, 2 A1, 3 A2, 4 P00, 5 P01, 6 P02, 7 P03, 8 P04, 9 P05, 10 P06, 11 P07, 12 GND, 13 P10, 14 P11, 15 P12, 16 P13, 17 P14, 18 P15, 19 P16, 20 P17, 21 A0, 22 SCL, 23 SDA, 24 VCC

## TCA9535MRGER
designator *  value TCA9535MRGER  Reference: U
ki_keywords: ti parallel port; ki_description: 16-bit I/O expander, I2C and SMBus interface, interrupts, w/o pull-ups, QFN-24; ki_fp_filters: VQFN*1EP*4x4mm*P0.5mm*; Footprint: Package_DFN_QFN:VQFN-24-1EP_4x4mm_P0.5mm_EP2.45x2.45mm; Datasheet: http://www.ti.com/lit/ds/symlink/tca9535.pdf
pins: 1 P00, 2 P01, 3 P02, 4 P03, 5 P04, 6 P05, 7 P06, 8 P07, 9 GND, 10 P10, 11 P11, 12 P12, 13 P13, 14 P14, 15 P15, 16 P16, 17 P17, 18 A0, 19 SCL, 20 SDA, 21 VCC, 22 ~{{INT}}, 23 A1, 24 A2, 25 EPAD

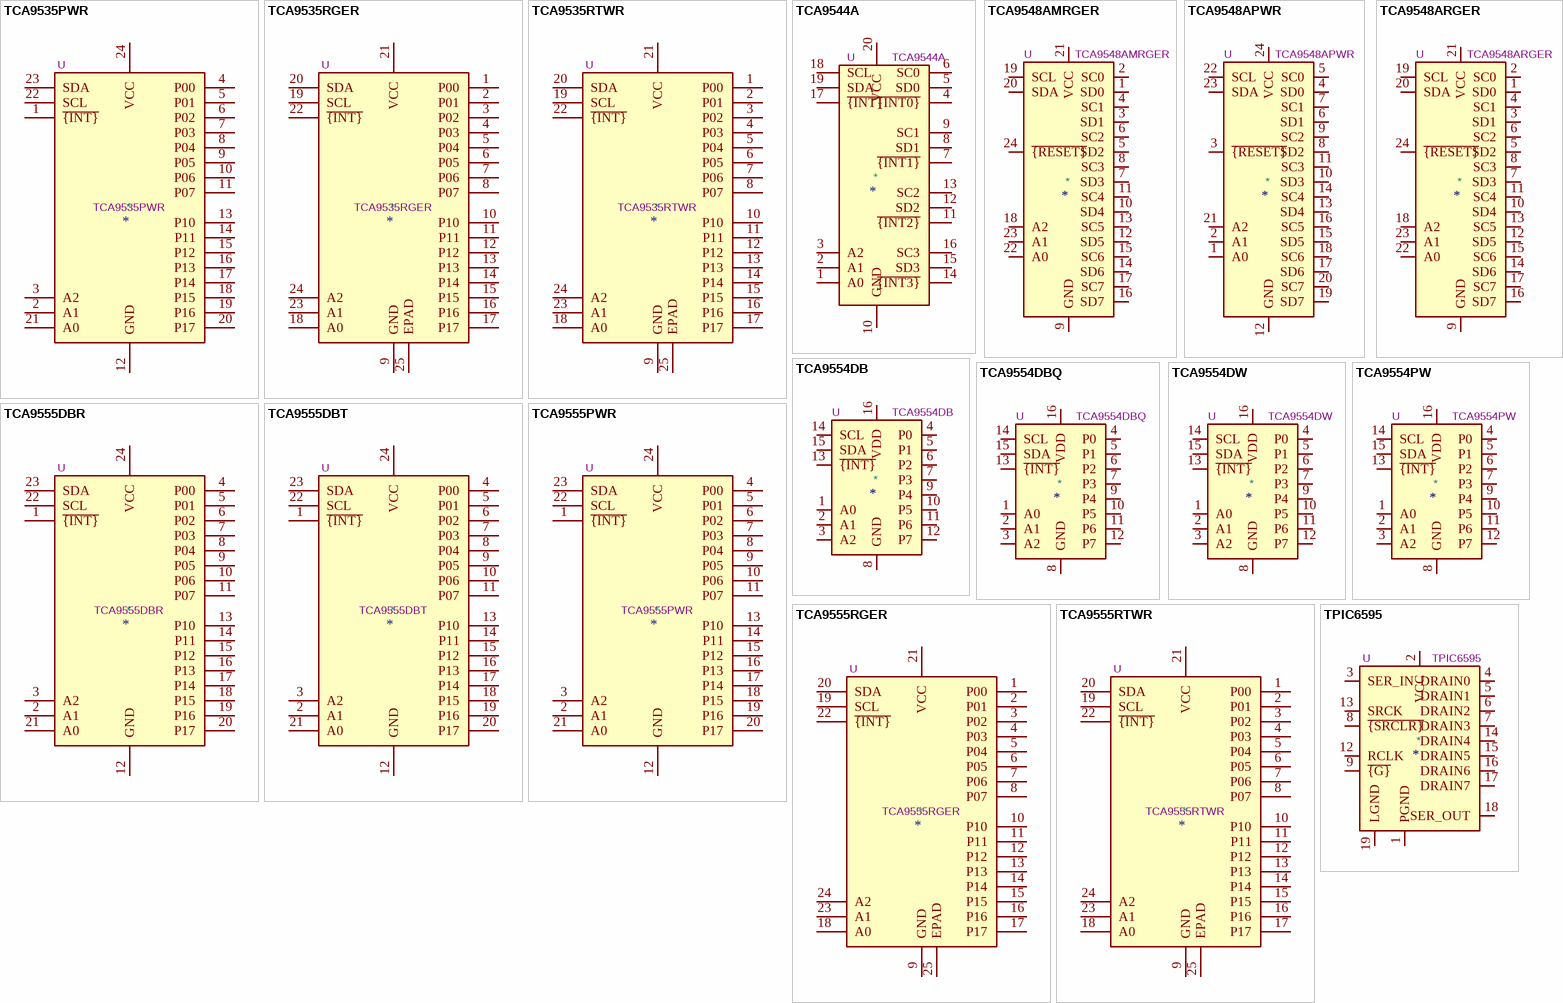
[diagram p2: symbols TCA9535PWR to TPIC6595]

## TCA9535PWR
designator *  value TCA9535PWR  Reference: U
ki_keywords: ti parallel port; ki_description: 16-bit I/O expander, I2C and SMBus interface, interrupts, w/o pull-ups, TSSOP-24 package; ki_fp_filters: TSSOP*4.4x7.8mm*P0.65mm*; Footprint: Package_SO:TSSOP-24_4.4x7.8mm_P0.65mm; Datasheet: http://www.ti.com/lit/ds/symlink/tca9535.pdf
pins: 1 ~{{INT}}, 2 A1, 3 A2, 4 P00, 5 P01, 6 P02, 7 P03, 8 P04, 9 P05, 10 P06, 11 P07, 12 GND, 13 P10, 14 P11, 15 P12, 16 P13, 17 P14, 18 P15, 19 P16, 20 P17, 21 A0, 22 SCL, 23 SDA, 24 VCC

## TCA9535RGER
designator *  value TCA9535RGER  Reference: U
ki_keywords: ti parallel port; ki_description: 16-bit I/O expander, I2C and SMBus interface, interrupts, w/o pull-ups, QFN-24; ki_fp_filters: VQFN*1EP*4x4mm*P0.5mm*; Footprint: Package_DFN_QFN:VQFN-24-1EP_4x4mm_P0.5mm_EP2.45x2.45mm; Datasheet: http://www.ti.com/lit/ds/symlink/tca9535.pdf
pins: 1 P00, 2 P01, 3 P02, 4 P03, 5 P04, 6 P05, 7 P06, 8 P07, 9 GND, 10 P10, 11 P11, 12 P12, 13 P13, 14 P14, 15 P15, 16 P16, 17 P17, 18 A0, 19 SCL, 20 SDA, 21 VCC, 22 ~{{INT}}, 23 A1, 24 A2, 25 EPAD

## TCA9535RTWR
designator *  value TCA9535RTWR  Reference: U
ki_keywords: ti parallel port; ki_description: 16-bit I/O expander, I2C and SMBus interface, interrupts, w/o pull-ups, QFN-24; ki_fp_filters: WQFN*1EP*4x4mm*P0.5mm*; Footprint: Package_DFN_QFN:WQFN-24-1EP_4x4mm_P0.5mm_EP2.45x2.45mm; Datasheet: http://www.ti.com/lit/ds/symlink/tca9535.pdf
pins: 1 P00, 2 P01, 3 P02, 4 P03, 5 P04, 6 P05, 7 P06, 8 P07, 9 GND, 10 P10, 11 P11, 12 P12, 13 P13, 14 P14, 15 P15, 16 P16, 17 P17, 18 A0, 19 SCL, 20 SDA, 21 VCC, 22 ~{{INT}}, 23 A1, 24 A2, 25 EPAD

## TCA9544A
designator *  value TCA9544A  Reference: U
ki_keywords: I2C Hub; ki_description: I2C Hub, 4 Channels, Interrupts, TSSOP-20; ki_fp_filters: TSSOP*4.4x6.5mm*P0.65mm*; Footprint: Package_SO:TSSOP-20_4.4x6.5mm_P0.65mm; Datasheet: http://www.ti.com/lit/ds/symlink/tca9544a.pdf
pins: 1 A0, 2 A1, 3 A2, 4 ~{{INT0}}, 5 SD0, 6 SC0, 7 ~{{INT1}}, 8 SD1, 9 SC1, 10 GND, 11 ~{{INT2}}, 12 SD2, 13 SC2, 14 ~{{INT3}}, 15 SD3, 16 SC3, 17 ~{{INT}}, 18 SCL, 19 SDA, 20 VCC

## TCA9548AMRGER
designator *  value TCA9548AMRGER  Reference: U
ki_keywords: Low voltage 8-channel I2C switch with reset; ki_description: Low voltage 8-channel I2C switch with reset, VQFN-24; ki_fp_filters: Texas*RGE0024C*; Footprint: Package_DFN_QFN:Texas_RGE0024C_EP2.1x2.1mm; Datasheet: http://www.ti.com/lit/ds/symlink/tca9548a.pdf
pins: 1 SD0, 2 SC0, 3 SD1, 4 SC1, 5 SD2, 6 SC2, 7 SD3, 8 SC3, 9 GND, 10 SD4, 11 SC4, 12 SD5, 13 SC5, 14 SD6, 15 SC6, 16 SD7, 17 SC7, 18 A2, 19 SCL, 20 SDA, 21 VCC, 22 A0, 23 A1, 24 ~{{RESET}}, 25 1EP hidden

## TCA9548APWR
designator *  value TCA9548APWR  Reference: U
ki_keywords: Low voltage 8-channel I2C switch with reset; ki_description: Low voltage 8-channel I2C switch with reset, TSSOP-24; ki_fp_filters: TSSOP*4.4x7.8mm*P0.65mm*; Footprint: Package_SO:TSSOP-24_4.4x7.8mm_P0.65mm; Datasheet: http://www.ti.com/lit/ds/symlink/tca9548a.pdf
pins: 1 A0, 2 A1, 3 ~{{RESET}}, 4 SD0, 5 SC0, 6 SD1, 7 SC1, 8 SD2, 9 SC2, 10 SD3, 11 SC3, 12 GND, 13 SD4, 14 SC4, 15 SD5, 16 SC5, 17 SD6, 18 SC6, 19 SD7, 20 SC7, 21 A2, 22 SCL, 23 SDA, 24 VCC

## TCA9548ARGER
designator *  value TCA9548ARGER  Reference: U
ki_keywords: Low voltage 8-channel I2C switch with reset; ki_description: Low voltage 8-channel I2C switch with reset, QFN-24; ki_fp_filters: Texas*RGE0024C*; Footprint: Package_DFN_QFN:Texas_RGE0024C_EP2.1x2.1mm; Datasheet: http://www.ti.com/lit/ds/symlink/tca9548a.pdf
pins: 1 SD0, 2 SC0, 3 SD1, 4 SC1, 5 SD2, 6 SC2, 7 SD3, 8 SC3, 9 GND, 10 SD4, 11 SC4, 12 SD5, 13 SC5, 14 SD6, 15 SC6, 16 SD7, 17 SC7, 18 A2, 19 SCL, 20 SDA, 21 VCC, 22 A0, 23 A1, 24 ~{{RESET}}, 25 1EP hidden

## TCA9554DB
designator *  value TCA9554DB  Reference: U
ki_keywords: SMBUS I2C Expander; ki_description: 8 Bit Port/Expander, I2C SMBUS, Interrupt output, SSOP-16; ki_fp_filters: SSOP*5.3x6.2mm*P0.65mm*; Footprint: Package_SO:SSOP-16_5.3x6.2mm_P0.65mm; Datasheet: http://www.ti.com/lit/ds/symlink/tca9554.pdf
pins: 1 A0, 2 A1, 3 A2, 4 P0, 5 P1, 6 P2, 7 P3, 8 GND, 9 P4, 10 P5, 11 P6, 12 P7, 13 ~{{INT}}, 14 SCL, 15 SDA, 16 VDD

## TCA9554DBQ
designator *  value TCA9554DBQ  Reference: U
ki_keywords: SMBUS I2C Expander; ki_description: 8 Bit Port/Expander, I2C SMBUS, Interrupt output, SSOP-16; ki_fp_filters: SSOP*3.9x4.9mm*P0.635mm*; Footprint: Package_SO:SSOP-16_3.9x4.9mm_P0.635mm; Datasheet: http://www.ti.com/lit/ds/symlink/tca9554.pdf
pins: 1 A0, 2 A1, 3 A2, 4 P0, 5 P1, 6 P2, 7 P3, 8 GND, 9 P4, 10 P5, 11 P6, 12 P7, 13 ~{{INT}}, 14 SCL, 15 SDA, 16 VDD

## TCA9554DW
designator *  value TCA9554DW  Reference: U
ki_keywords: SMBUS I2C Expander; ki_description: 8 Bit Port/Expander, I2C SMBUS, Interrupt output, SOIC-16; ki_fp_filters: SOIC*7.5x10.3mm*P1.27mm*; Footprint: Package_SO:SOIC-16W_7.5x10.3mm_P1.27mm; Datasheet: http://www.ti.com/lit/ds/symlink/tca9554.pdf
pins: 1 A0, 2 A1, 3 A2, 4 P0, 5 P1, 6 P2, 7 P3, 8 GND, 9 P4, 10 P5, 11 P6, 12 P7, 13 ~{{INT}}, 14 SCL, 15 SDA, 16 VDD

## TCA9554PW
designator *  value TCA9554PW  Reference: U
ki_keywords: SMBUS I2C Expander; ki_description: 8 Bit Port/Expander, I2C SMBUS, Interrupt output, TSSOP-16; ki_fp_filters: TSSOP*4.4x5mm*P0.65mm*; Footprint: Package_SO:TSSOP-16_4.4x5mm_P0.65mm; Datasheet: http://www.ti.com/lit/ds/symlink/tca9554.pdf
pins: 1 A0, 2 A1, 3 A2, 4 P0, 5 P1, 6 P2, 7 P3, 8 GND, 9 P4, 10 P5, 11 P6, 12 P7, 13 ~{{INT}}, 14 SCL, 15 SDA, 16 VDD

## TCA9555DBR
designator *  value TCA9555DBR  Reference: U
ki_keywords: ti parallel port; ki_description: 16-bit I/O expander, I2C and SMBus interface, interrupts, w/ pull-ups, SSOP-24; ki_fp_filters: SSOP*5.3x8.2mm*P0.65mm*; Footprint: Package_SO:SSOP-24_5.3x8.2mm_P0.65mm; Datasheet: http://www.ti.com/lit/ds/symlink/tca9555.pdf
pins: 1 ~{{INT}}, 2 A1, 3 A2, 4 P00, 5 P01, 6 P02, 7 P03, 8 P04, 9 P05, 10 P06, 11 P07, 12 GND, 13 P10, 14 P11, 15 P12, 16 P13, 17 P14, 18 P15, 19 P16, 20 P17, 21 A0, 22 SCL, 23 SDA, 24 VCC

## TCA9555DBT
designator *  value TCA9555DBT  Reference: U
ki_keywords: ti parallel port; ki_description: 16-bit I/O expander, I2C and SMBus interface, interrupts, w/ pull-ups, SSOP-24; ki_fp_filters: SSOP*5.3x8.2mm*P0.65mm*; Footprint: Package_SO:SSOP-24_5.3x8.2mm_P0.65mm; Datasheet: http://www.ti.com/lit/ds/symlink/tca9555.pdf
pins: 1 ~{{INT}}, 2 A1, 3 A2, 4 P00, 5 P01, 6 P02, 7 P03, 8 P04, 9 P05, 10 P06, 11 P07, 12 GND, 13 P10, 14 P11, 15 P12, 16 P13, 17 P14, 18 P15, 19 P16, 20 P17, 21 A0, 22 SCL, 23 SDA, 24 VCC

## TCA9555PWR
designator *  value TCA9555PWR  Reference: U
ki_keywords: ti parallel port; ki_description: 16-bit I/O expander, I2C and SMBus interface, interrupts, w/ pull-ups, TSSOP-24 package; ki_fp_filters: TSSOP*4.4x7.8mm*P0.65mm*; Footprint: Package_SO:TSSOP-24_4.4x7.8mm_P0.65mm; Datasheet: http://www.ti.com/lit/ds/symlink/tca9555.pdf
pins: 1 ~{{INT}}, 2 A1, 3 A2, 4 P00, 5 P01, 6 P02, 7 P03, 8 P04, 9 P05, 10 P06, 11 P07, 12 GND, 13 P10, 14 P11, 15 P12, 16 P13, 17 P14, 18 P15, 19 P16, 20 P17, 21 A0, 22 SCL, 23 SDA, 24 VCC

## TCA9555RGER
designator *  value TCA9555RGER  Reference: U
ki_keywords: ti parallel port; ki_description: 16-bit I/O expander, I2C and SMBus interface, interrupts, w/ pull-ups, QFN-24; ki_fp_filters: VQFN*1EP*4x4mm*P0.5mm*; Footprint: Package_DFN_QFN:VQFN-24-1EP_4x4mm_P0.5mm_EP2.45x2.45mm; Datasheet: http://www.ti.com/lit/ds/symlink/tca9555.pdf
pins: 1 P00, 2 P01, 3 P02, 4 P03, 5 P04, 6 P05, 7 P06, 8 P07, 9 GND, 10 P10, 11 P11, 12 P12, 13 P13, 14 P14, 15 P15, 16 P16, 17 P17, 18 A0, 19 SCL, 20 SDA, 21 VCC, 22 ~{{INT}}, 23 A1, 24 A2, 25 EPAD

## TCA9555RTWR
designator *  value TCA9555RTWR  Reference: U
ki_keywords: ti parallel port; ki_description: 16-bit I/O expander, I2C and SMBus interface, interrupts, w/ pull-ups, QFN-24; ki_fp_filters: WQFN*1EP*4x4mm*P0.5mm*; Footprint: Package_DFN_QFN:WQFN-24-1EP_4x4mm_P0.5mm_EP2.45x2.45mm; Datasheet: http://www.ti.com/lit/ds/symlink/tca9555.pdf
pins: 1 P00, 2 P01, 3 P02, 4 P03, 5 P04, 6 P05, 7 P06, 8 P07, 9 GND, 10 P10, 11 P11, 12 P12, 13 P13, 14 P14, 15 P15, 16 P16, 17 P17, 18 A0, 19 SCL, 20 SDA, 21 VCC, 22 ~{{INT}}, 23 A1, 24 A2, 25 EPAD

## TPIC6595
designator *  value TPIC6595  Reference: U
ki_keywords: shift register 8bit; ki_description: Power Logic 8-bit Shift Register, DIP-8/SOIC-8; ki_fp_filters: SOIC*7.5x12.8mm*P1.27mm* DIP*W7.62mm*; Datasheet: http://www.ti.com/lit/ds/symlink/tpic6595.pdf
pins: 1 PGND, 2 VCC, 3 SER_IN, 4 DRAIN0, 5 DRAIN1, 6 DRAIN2, 7 DRAIN3, 8 ~{{SRCLR}}, 9 ~{{G}}, 10 PGND hidden, 11 PGND hidden, 12 RCLK, 13 SRCK, 14 DRAIN4, 15 DRAIN5, 16 DRAIN6, 17 DRAIN7, 18 SER_OUT, 19 LGND, 20 PGND hidden